# Altium schematic symbol library DB9.SchLib: 1 symbol
Pins are listed as number, name and electrical type; pins without a type are passive.

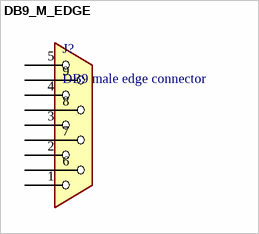
[diagram p0: symbol DB9_M_EDGE]

## DB9_M_EDGE
designator J?, comment DB9 male edge connector
footprint DB9-M-EDGE
pins: 1, 2, 3, 4, 5, 6, 7, 8, 9